# EAGLE library part HCPL-0661-500E (library Library v2)
High CMR, High Speed TTL Compatible Optocouplers
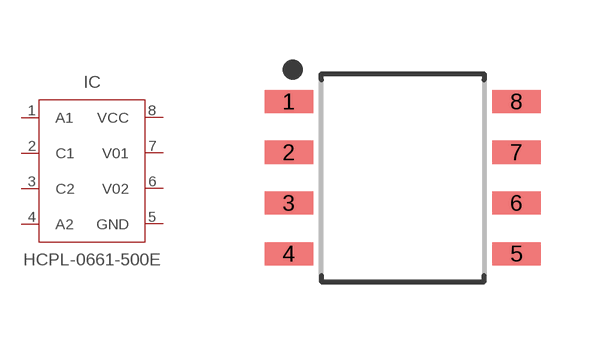
[diagram p0: symbol with the pads of SOIC127P599X330-8N; footprint SOIC127P599X330-8N]

Designator prefix IC

## HCPL-0661-500ESO-8 (CATEGORY: Opto-Electronic; MANUFACTURER: Broadcom; MPN: HCPL-0661; OPERATING_TEMP: –40°C to 85°C; PART_STATUS: Active; ROHS_COMPLIANT: RoHS3 Compliant; SUB-CATEGORY: OptoCoupler; THERMALLOSS: 0.06W; VALUE: HCPL-0661)  [SOIC127P599X330-8N]
1  A1
2  C1
3  C2
4  A2
5  GND  pwr
6  V02  pwr
7  V01  pwr
8  VCC  pwr

## Footprint SOIC127P599X330-8N (pad centres in mm)
8-SOIC, 1.27 mm pitch, 5.99 mm span, 5.08 X 3.94 X 3.30 mm body 8-pin SOIC package with 1.27 mm pitch, 5.99 mm span with body size 5.08 X 3.94 X 3.30 mm
smd 1.223 x 0.579: 1 -2.845,1.905; 2 -2.845,0.635; 3 -2.845,-0.635; 4 -2.845,-1.905; 5 2.845,-1.905; 6 2.845,-0.635; 7 2.845,0.635; 8 2.845,1.905